# Altium footprint library PcbLib1.PcbLib: 7 footprints
Each footprint in its own frame and in the unit in brackets; x right, y up, seen from the top. Pads: shape width x height; smd on the part's side, far side on the other; paste and mask are expansions set on the pad; w line width, h text height; cw(c..) or ccw(c..) is an arc to the next point about the centre after c.
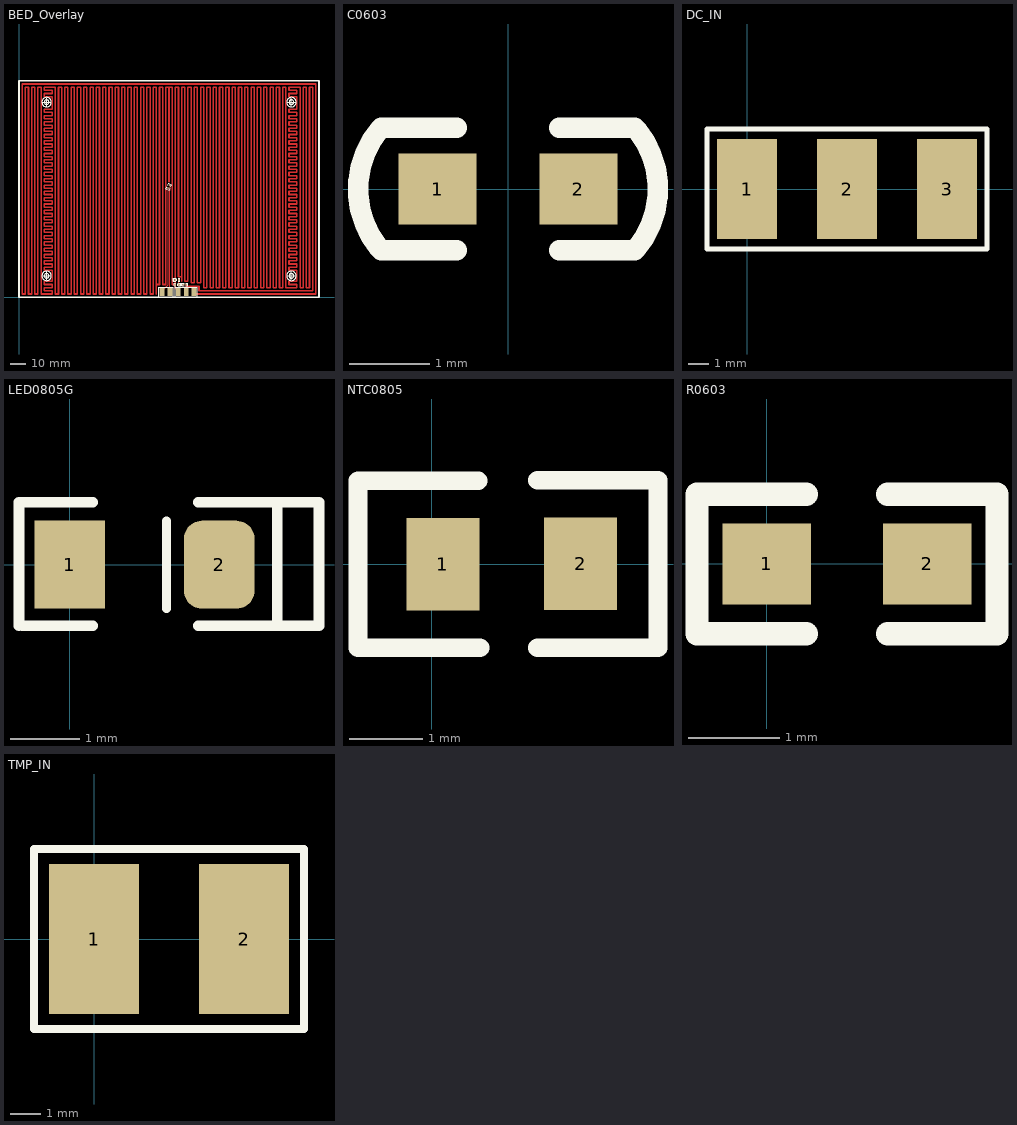
[diagram p0: the footprints below, top view; thin cyan lines are the x and y axes]

## BED_Overlay [mm]
pads (13):
  rect 3x5 smd: 1(90.636,3.144) 1(100.892,3.144) 2(95.636,3.144) 2(105.892,3.144) 3(110.892,3.144)
  rect 1x1.27 smd rot 65: 1(94.594,69.138) 2(95.387,70.851)
  rect 1.016x1.27 smd: 1(99,8) 1(101.159,11)
  rect 0.965x0.889 smd: 1(106,8) 2(104.247,8)
  rrect50% 1.016x1.27 smd: 2(99,11) 2(101.159,8)
Top Layer:
  lines w0.254: 91,4.386 94.5,7.886 94.5,68.652 ; 95.5,1 95.5,67.9 95.762,68.162 95.762,70.476 ; 101.159,11 101.159,8 104.247,8
  lines w1: 87,2 87,8 ; 95,73 95,133 ; 100.892,3.144 100.892,4.108 99,6 99,8 ; 103,10 103,13 ; 106,3.252 106,8 ; 106,7 114,7 114,4 186,4 186,133 184,133 184,6 182,6 182,133 180,133 180,6 178,6 178,133 171,133 171,131 176,131 176,129 171,129 171,127 176,127 176,119 171,119 171,117 176,117 176,115 171,115 171,113 176,113 176,111 171,111 171,109 176,109 176,107 171,107 171,105 176,105 176,103 171,103 171,101 176,101 176,99 171,99 171,97 176,97 176,95 171,95 171,93 176,93 176,91 171,91 171,89 176,89 176,87 171,87 171,85 176,85 176,83 171,83 171,81 176,81 176,79 171,79 171,77 176,77 176,75 171,75 171,73 176,73 176,71 171,71 171,69 176,69 176,67 171,67 171,65 176,65 176,63 171,63 171,61 176,61 176,59 171,59 171,57 176,57 176,55 171,55 171,53 176,53 176,51 171,51 171,49 176,49 176,47 171,47 171,45 176,45 176,43 171,43 171,41 176,41 176,39 171,39 171,37 176,37 176,35 171,35 171,33 176,33 176,31 171,31 171,29 176,29 176,27 171,27 171,25 176,25 176,23 171,23 171,21 176,21 176,19 171,19 171,17 176,17 176,10 171,10 171,8 176,8 176,6 169,6 169,133 167,133 167,6 165,6 165,133 163,133 163,6 161,6 161,133 159,133 159,6 157,6 157,133 155,133 155,6 153,6 153,133 151,133 151,6 149,6 149,133 147,133 147,6 145,6 145,133 143,133 143,6 141,6 141,133 139,133 139,6 137,6 137,133 135,133 135,6 133,6 133,133 131,133 131,6 129,6 129,133 127,133 127,6 125,6 125,133 123,133 123,6 121,6 121,133 119,133 119,6 117,6 117,133 115,133 115,9 113,9 113,133 111,133 111,9 109,9 109,133 107,133 107,10.1 105,10.1 105,133 103,133 103,13 ; 110.892,3.144 112.036,2 188,2 188,135 2,135 2,2 4,2 4,133 6,133 6,2 8,2 8,133 10,133 10,2 12,2 12,133 14,133 14,2 21,2 21,4 16,4 16,6 21,6 21,8 16,8 16,10 21,10 21,17 16,17 16,19 21,19 21,21 16,21 16,23 21,23 21,25 16,25 16,27 21,27 21,29 16,29 16,31 21,31 21,33 16,33 16,35 21,35 21,37 16,37 16,39 21,39 21,41 16,41 16,43 21,43 21,45 16,45 16,47 21,47 21,49 16,49 16,51 21,51 21,53 16,53 16,55 21,55 21,57 16,57 16,59 21,59 21,61 16,61 16,63 21,63 21,65 16,65 16,67 21,67 21,69 16,69 16,71 21,71 21,73 16,73 16,75 21,75 21,77 16,77 16,79 21,79 21,81 16,81 16,83 21,83 21,85 16,85 16,87 21,87 21,89 16,89 16,91 21,91 21,93 16,93 16,95 21,95 21,97 16,97 16,99 21,99 21,101 16,101 16,103 21,103 21,105 16,105 16,107 21,107 21,109 16,109 16,111 21,111 21,113 16,113 16,115 21,115 21,117 16,117 16,119 21,119 21,127 16,127 16,129 21,129 21,131 16,131 16,133 23,133 23,2 25,2 25,133 27,133 27,2 29,2 29,133 31,133 31,2 33,2 33,133 35,133 35,2 37,2 37,133 39,133 39,2 41,2 41,133 43,133 43,2 45,2 45,133 47,133 47,2 49,2 49,133 51,133 51,2 53,2 53,133 55,133 55,2 57,2 57,133 59,133 59,2 61,2 61,133 63,133 63,2 65,2 65,133 67,133 67,2 69,2 69,133 71,133 71,2 73,2 73,133 75,133 75,2 77,2 77,133 79,133 79,2 81,2 81,133 83,133 83,2 85,2 85,133 87,133 87,8 ; 87,8 89,8 89,133 91,133 91,8 93,8 93,133 95,133 ; 95,133 97,133 97,8 99,8 ; 99,8 99,11 99,133 101,133 101,13 103,13
Top Overlay:
  circle w0.2: c172.5,13.5 r3
  circle w0.2: c17.5,13.5 r3
  circle w0.2: c172.5,13.5 r1.5
  circle w0.2: c17.5,13.5 r1.5
  circle w0.2: c17.5,123.5 r1.5
  circle w0.2: c17.5,123.5 r3
  circle w0.2: c172.5,123.5 r1.5
  circle w0.2: c172.5,123.5 r3
  lines w0.1: 15,13.5 20,13.5 ; 15,123.5 20,123.5 ; 17.5,11 17.5,16 ; 17.5,121 17.5,126 ; 170,13.5 175,13.5 ; 170,123.5 175,123.5 ; 172.5,11 172.5,16 ; 172.5,121 172.5,126
  lines w0.127: 99.762,10.365 99.762,11.635 ; 100.397,7.365 100.397,8.635
  lines w0.152: 98.267,7.121 98.267,8.899 99.334,8.899 ; 98.318,7.121 99.334,7.121 ; 99.301,10.101 98.159,10.101 ; 99.301,11.879 98.159,11.879 ; 100.825,10.101 101.892,10.101 101.892,11.879 ; 100.825,11.879 101.841,11.879 ; 100.858,7.121 102,7.121 ; 100.858,8.899 102,8.899 ; 98.159,10.101 97.559,10.101 97.559,11.879 98.159,11.879 ; 98.159,10.101 98.159,11.879 ; 102,7.121 102.6,7.121 102.6,8.899 102,8.899 ; 102,7.121 102,8.899
  lines w0.254: 93.762,70.059 93.067,68.567 95.139,67.601 95.845,69.115 ; 94.101,70.797 94.799,72.294 96.876,71.325 96.178,69.829 ; 104.679,7.238 103.485,7.238 103.485,8.762 104.679,8.762 ; 105.568,7.238 106.762,7.238 106.762,8.762 105.568,8.762 ; 88.636,0.144 97.636,0.144 97.636,6.144 88.636,6.144 88.636,0.144 ; 98.892,0.144 98.892,6.144 112.892,6.144 112.892,0.144 98.892,0.144
  lines w1: 0,0 0,137 190,137 190,0 0,0
3D body: height 0.8, standoff 0, extent 99.036,10.385 101.036,11.635
3D body: height 0.8, standoff 0, extent 99.123,7.365 101.123,8.615
3D body: height 0.45, standoff 0, extent 104.311,7.6 105.911,8.4
3D body: height 0.91, standoff 0.01, extent 94.026,68.837 95.946,71.144

## C0603 [mil]
height 68.9
pads (2):
  rect 38x35 smd: 1(-34.5,0) 2(34.5,0)
Top Overlay:
  lines w10: -63.13,-29 cw(c-27.68,-0.04) -62.6,29.56 ; -62.13,-30 -25.13,-30 ; -62.13,30 -25.13,30 ; 25.13,-30 62.13,-30 ; 25.13,30 62.13,30 ; 62.6,-29.56 ccw(c27.68,0.04) 63.13,29
3D body: height 11.89, standoff 0, extent -30.7,-15.8 32.3,15.7

## DC_IN [mm]
pads (3):
  rect 3x5 smd: 1(0,0) 2(5,0) 3(10,0)
Top Overlay:
  lines w0.254: -2,-3 12,-3 12,3 -2,3 -2,-3

## LED0805G [mil]
height 68.9
pads (2):
  rect 40x50 smd: 1(0,0)
  rrect50% 40x50 smd: 2(85,0)
Top Overlay:
  lines w5: 55,-25 55,25
  lines w6: -28.86,-34.61 -28.86,35.39 13.15,35.39 ; -26.85,-34.61 13.15,-34.61 ; 73.15,-34.61 118.11,-34.61 ; 73.15,35.39 118.11,35.39 ; 118.11,-34.61 141.73,-34.61 141.73,35.39 118.11,35.39 ; 118.11,-34.61 118.11,35.39
3D body: height 31.5, standoff 0, extent 4.84,-25 83.58,24.21

## NTC0805 [mm] "NTCG204CH104JT1S"
height 1.75
pads (2):
  rect 1x1.27 smd: 1(0.152,0) 2(2.04,0.005)
Top Overlay:
  lines w0.254: 0.635,1.143 -1.011,1.143 -1.011,-1.143 0.66,-1.143 ; 1.448,-1.143 3.099,-1.143 3.099,1.148 1.448,1.148
3D body: height 0.91, standoff 0.01, extent 0.09,-0.595 2.09,0.605

## R0603 [mil] "1/10W"
height 68.9
pads (2):
  rect 38x35 smd: 1(0,0) 2(69,0)
Top Overlay:
  lines w10: 17,-30 -30,-30 -30,30 17,30 ; 52,-30 99,-30 99,30 52,30
3D body: height 17.72, standoff 0, extent 3.51,-15.74 66.5,15.75

## TMP_IN [mm]
pads (2):
  rect 3x5 smd: 1(0,0) 2(5,0)
Top Overlay:
  lines w0.254: -2,-3 -2,3 7,3 7,-3 -2,-3